# Altium footprint library QFN.PcbLib: 3 footprints
Each footprint in its own frame and in the unit in brackets; x right, y up, seen from the top. Pads: shape width x height; smd on the part's side, far side on the other; paste and mask are expansions set on the pad; w line width, h text height; cw(c..) or ccw(c..) is an arc to the next point about the centre after c.
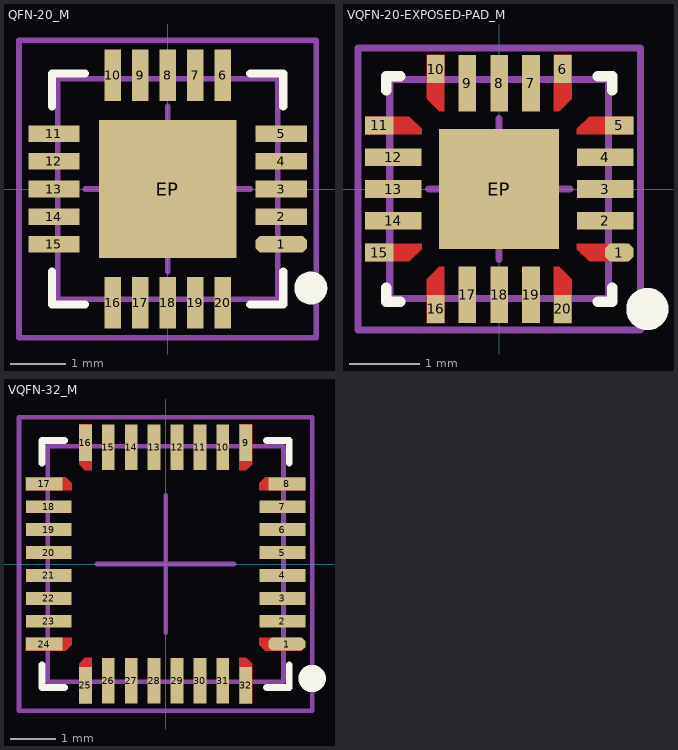
[diagram p0: the footprints below, top view; thin cyan lines are the x and y axes]

## QFN-20_M [mm] "QFN, 20-Leads, Body 4x4mm, Pitch 0.5mm, IPC Low Density"
height 1
pads (21):
  oct 0.93x0.3 smd paste-0.025 mask+0.05: 1(2.065,-1)
  rect 0.93x0.3 smd paste-0.025 mask+0.05: 2(2.065,-0.5) 3(2.065,0) 4(2.065,0.5) 5(2.065,1) 11(-2.065,1) 12(-2.065,0.5) 13(-2.065,0) 14(-2.065,-0.5) 15(-2.065,-1)
  rect 0.3x0.93 smd paste-0.025 mask+0.05: 6(1,2.065) 7(0.5,2.065) 8(0,2.065) 9(-0.5,2.065) 10(-1,2.065) 16(-1,-2.065) 17(-0.5,-2.065) 18(0,-2.065) 19(0.5,-2.065) 20(1,-2.065)
  rect 2.5x2.5 smd mask+0.05: EP(0,0)
Top Overlay:
  circle w0.3: c2.6,-1.8 r0.15
  lines w0.15: -2.1,-1.5 -2.1,-2.1 -1.5,-2.1 ; -2.1,1.5 -2.1,2.1 -1.5,2.1 ; 1.5,-2.1 2.1,-2.1 2.1,-1.5 ; 1.5,2.1 2.1,2.1 2.1,1.5
Mechanical 13:
  lines w0.1: -2,-2 -2,2 2,2 2,-2 -2,-2
Mechanical 15:
  lines w0.1: -1.5,0 1.5,0 ; 0,-1.5 0,1.5 ; -2.7,-2.7 2.7,-2.7 2.7,2.7 -2.7,2.7 -2.7,-2.7
3D body: height 1, standoff 0.05, extent -2,-2 2,2

## VQFN-20-EXPOSED-PAD_M [mm] "VQFN, 20-Leads, Body 3x3mm, Pitch 0.45mm, IPC Low Density"
height 0.85
pads (21):
  oct 0.4x0.25 smd paste-0.025 mask+0.05: 1(1.7,-0.9)
  rect 0.8x0.25 smd paste-0.025 mask+0.05: 2(1.5,-0.45) 3(1.5,0) 4(1.5,0.45) 12(-1.5,0.45) 13(-1.5,0) 14(-1.5,-0.45)
  rect 0.4x0.25 smd paste-0.85 mask+0.05: 5(1.7,0.9) 11(-1.7,0.9) 15(-1.7,-0.9)
  rect 0.25x0.4 smd paste-0.85 mask+0.05: 6(0.9,1.7) 10(-0.9,1.7) 16(-0.9,-1.7) 20(0.9,-1.7)
  rect 0.25x0.8 smd paste-0.025 mask+0.05: 7(0.45,1.5) 8(0,1.5) 9(-0.45,1.5) 17(-0.45,-1.5) 18(0,-1.5) 19(0.45,-1.5)
  rect 1.7x1.7 smd mask+0.05: EP(0,0)
Top Layer:
  region: -1.9,-0.775 -1.1,-0.775 -1.1,-0.85 -1.275,-1.025 -1.9,-1.025
  region: -0.775,-1.9 -0.775,-1.1 -0.85,-1.1 -1.025,-1.275 -1.025,-1.9
  region: 1.8,-0.775 1.1,-0.775 1.1,-0.85 1.275,-1.025 1.8,-1.025
  region: 0.775,-1.9 0.775,-1.1 0.85,-1.1 1.025,-1.275 1.025,-1.9
  region: 0.775,1.9 0.775,1.1 0.85,1.1 1.025,1.275 1.025,1.9
  region: 1.9,0.775 1.1,0.775 1.1,0.85 1.275,1.025 1.9,1.025
  region: -1.9,0.775 -1.1,0.775 -1.1,0.85 -1.275,1.025 -1.9,1.025
  region: -0.775,1.9 -0.775,1.1 -0.85,1.1 -1.025,1.275 -1.025,1.9
Top Overlay:
  circle w0.3: c2.1,-1.7 r0.15
  lines w0.15: -1.6,-1.4 -1.6,-1.6 -1.4,-1.6 ; -1.6,1.4 -1.6,1.6 -1.4,1.6 ; 1.4,-1.6 1.6,-1.6 1.6,-1.4 ; 1.4,1.6 1.6,1.6 1.6,1.4
Mechanical 13:
  lines w0.1: -1.55,-1.55 1.55,-1.55 1.55,1.55 -1.55,1.55 -1.55,-1.55
Mechanical 15:
  lines w0.1: -1,0 1,0 ; 0,-1 0,1 ; -2,-2 -2,2 2,2 2,-2 -2,-2
3D body: height 0.85, standoff 0.05, extent -1.55,-1.55 1.55,1.55

## VQFN-32_M [mm] "VQFN, 32-Leads, Body 5x5mm, Pitch 0.5mm, IPC Low Density"
height 1
pads (32):
  oct 0.8x0.28 smd paste-0.025 mask+0.05: 1(2.65,-1.75)
  rect 1x0.28 smd paste-0.025 mask+0.05: 2(2.55,-1.25) 3(2.55,-0.75) 4(2.55,-0.25) 5(2.55,0.25) 6(2.55,0.75) 7(2.55,1.25) 18(-2.55,1.25) 19(-2.55,0.75) 20(-2.55,0.25) 21(-2.55,-0.25) 22(-2.55,-0.75) 23(-2.55,-1.25)
  rect 0.8x0.28 smd paste-0.4 mask+0.05: 8(2.65,1.75) 17(-2.65,1.75) 24(-2.65,-1.75)
  rect 0.28x0.8 smd paste-0.4 mask+0.05: 9(1.75,2.65) 16(-1.75,2.65) 25(-1.75,-2.65) 32(1.75,-2.65)
  rect 0.28x1 smd paste-0.025 mask+0.05: 10(1.25,2.55) 11(0.75,2.55) 12(0.25,2.55) 13(-0.25,2.55) 14(-0.75,2.55) 15(-1.25,2.55) 26(-1.25,-2.55) 27(-0.75,-2.55) 28(-0.25,-2.55) 29(0.25,-2.55) 30(0.75,-2.55) 31(1.25,-2.55)
Top Layer:
  region: -1.61,-3.05 -1.61,-2.05 -1.765,-2.05 -1.89,-2.175 -1.89,-3.05
  region: -3.05,-1.61 -2.05,-1.61 -2.05,-1.765 -2.175,-1.89 -3.05,-1.89
  region: 1.61,-3.05 1.61,-2.05 1.765,-2.05 1.89,-2.175 1.89,-3.05
  region: 2.95,-1.61 2.05,-1.61 2.05,-1.765 2.175,-1.89 2.95,-1.89
  region: 3.05,1.61 2.05,1.61 2.05,1.765 2.175,1.89 3.05,1.89
  region: 1.61,3.05 1.61,2.05 1.765,2.05 1.89,2.175 1.89,3.05
  region: -1.61,3.05 -1.61,2.05 -1.765,2.05 -1.89,2.175 -1.89,3.05
  region: -3.05,1.61 -2.05,1.61 -2.05,1.765 -2.175,1.89 -3.05,1.89
Top Overlay:
  circle w0.3: c3.2,-2.5 r0.15
  lines w0.15: -2.7,-2.2 -2.7,-2.7 -2.2,-2.7 ; -2.7,2.2 -2.7,2.7 -2.2,2.7 ; 2.2,-2.7 2.7,-2.7 2.7,-2.2 ; 2.2,2.7 2.7,2.7 2.7,2.2
Mechanical 13:
  lines w0.1: -2.575,-2.575 2.575,-2.575 2.575,2.575 -2.575,2.575 -2.575,-2.575
Mechanical 15:
  lines w0.1: -1.5,0 1.5,0 ; 0,-1.5 0,1.5 ; -3.2,-3.2 3.2,-3.2 3.2,3.2 -3.2,3.2 -3.2,-3.2
3D body: height 1, standoff 0, extent -2.575,-2.575 2.575,2.575